# Altium footprint library SHDR10W64P0X250_1X10_2740X575X700P.PcbLib: 1 footprints
Each footprint in its own frame and in the unit in brackets; x right, y up, seen from the top. Pads: shape width x height; smd on the part's side, far side on the other; paste and mask are expansions set on the pad; w line width, h text height; cw(c..) or ccw(c..) is an arc to the next point about the centre after c.
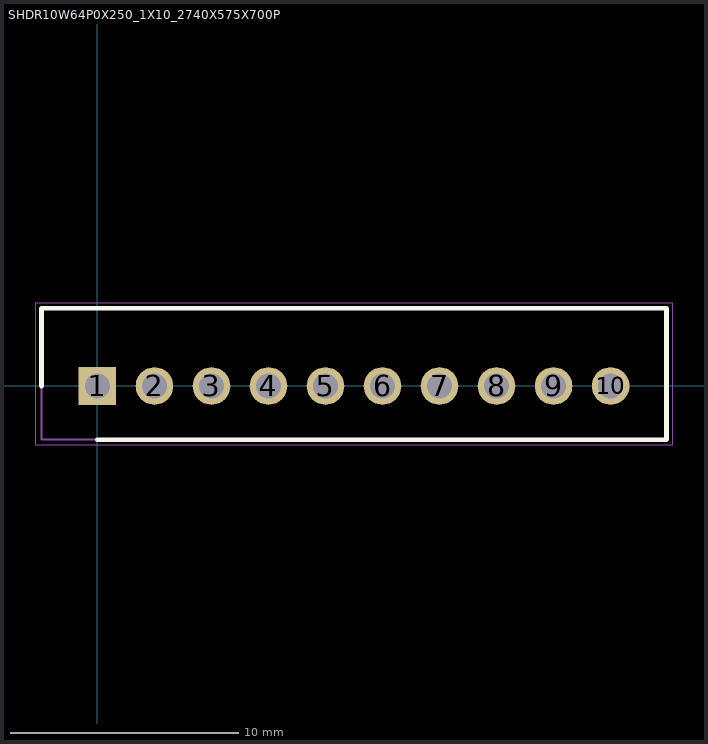
[diagram p0: the footprint, top view; thin cyan lines are the x and y axes]

## SHDR10W64P0X250_1X10_2740X575X700P [mm]
pads (10):
  rect 1.65x1.65 / inner round 1.65 / far side rect 1.65x1.65 hole 1.1: 1(0,0)
  round 1.65 hole 1.1: 2(2.5,0) 3(5,0) 4(7.5,0) 5(10,0) 6(12.5,0) 7(15,0) 8(17.5,0) 9(20,0) 10(22.5,0)
Top Overlay:
  lines w0.2: -2.45,0 -2.45,3.4 24.95,3.4 24.95,-2.35 0,-2.35
Mechanical 15:
  lines w0.1: -2.45,-2.35 -2.45,3.4 24.95,3.4 24.95,-2.35 -2.45,-2.35
Mechanical 20:
  lines w0.05: -2.7,-2.6 -2.7,3.65 25.2,3.65 25.2,-2.6 -2.7,-2.6